# Altium schematic symbol library CS4334-KSZ.SchLib: 1 symbol
Pins are listed as number, name and electrical type; pins without a type are passive.

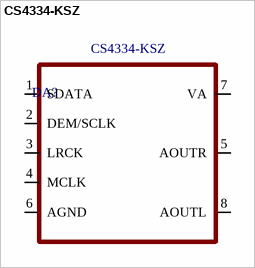
[diagram p0: symbol CS4334-KSZ]

## CS4334-KSZ
designator DA?
pins: 1 SDATA, 2 DEM/SCLK, 3 LRCK, 4 MCLK, 5 AOUTR, 6 AGND, 7 VA, 8 AOUTL